# Altium footprint library FiltrosRF.PcbLib: 5 footprints
Each footprint in its own frame and in the unit in brackets; x right, y up, seen from the top. Pads: shape width x height; smd on the part's side, far side on the other; paste and mask are expansions set on the pad; w line width, h text height; cw(c..) or ccw(c..) is an arc to the next point about the centre after c.
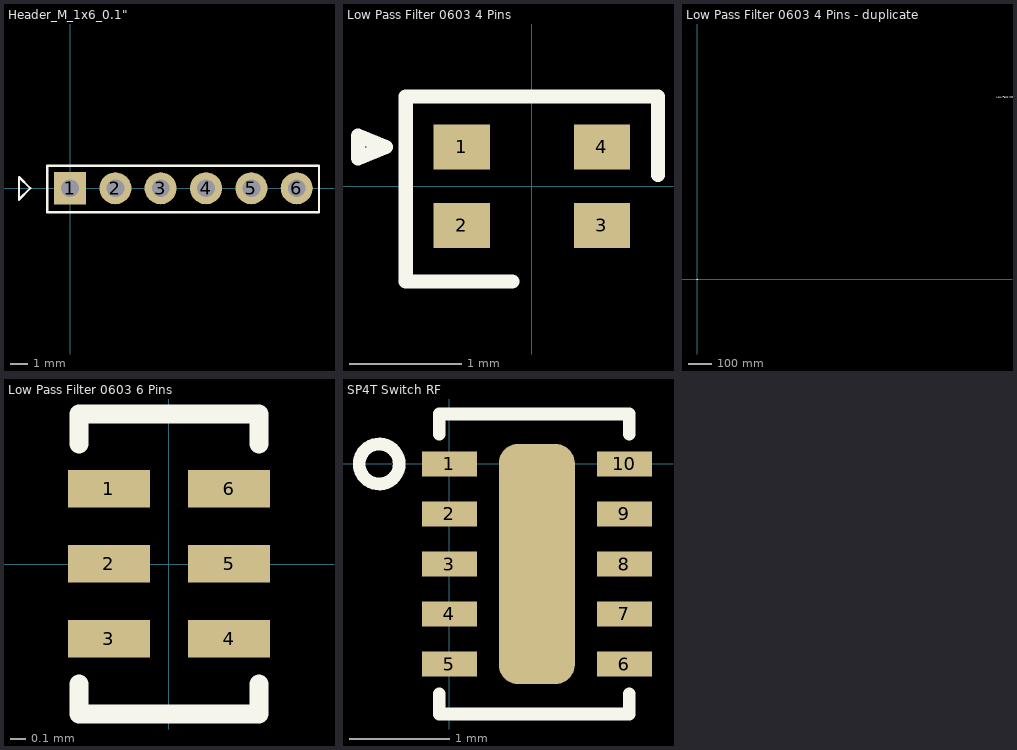
[diagram p0: the footprints below, top view; thin cyan lines are the x and y axes]

## Header_M_1x6_0.1" [mm] "Header Male 1 x 6 Vias Pitch 100mils"
pads (6):
  rect 1.8x1.8 hole 1: 1(0,0)
  round 1.8 hole 1: 2(2.54,0) 3(5.08,0) 4(7.62,0) 5(10.16,0) 6(12.7,0)
Top Overlay:
  lines w0.127: -2.857,-0.635 -2.857,0.635 -2.222,0 -2.857,-0.635 ; -1.27,-1.35 -1.27,1.27 13.95,1.27 13.95,-1.35 -1.27,-1.35
3D body "61300611121.step": height 8.47, standoff -3.07, extent -1.27,-1.3 13.97,1.24

## Low Pass Filter 0603 4 Pins [mm]
pads (4):
  rect 0.5x0.4 smd: 1(-0.625,0.35) 2(-0.625,-0.35) 3(0.625,-0.35) 4(0.625,0.35)
Top Overlay:
  lines w0.127: -0.175,-0.85 -1.125,-0.85 -1.125,0.8 1.125,0.8 1.125,0.1 ; -1.55,0.25 -1.55,0.45 ; -1.55,0.25 -1.55,0.45 ; -1.55,0.25 -1.3,0.35 -1.55,0.45

## Low Pass Filter 0603 4 Pins - duplicate [mm]
pads (4):
  rect 0.5x0.4 smd: 1(0,0) 2(0,-0.7) 3(1.25,-0.7) 4(1.25,0)
Top Overlay:
  lines w0.127: 1.7,-0.3 1.8,-0.3 1.8,0.4 -0.55,0.4 -0.55,-0.4 -0.55,-1.15 0.5,-1.15 ; 0.5,-1.15 0.5,-1 0.5,-1.15
  text "Low Pass Filter 0603 6 Pins" at 1269.975,766.455 h1.52

## Low Pass Filter 0603 6 Pins [mm]
pads (6):
  rect 0.55x0.25 smd mask+0.06: 1(-0.4,0.5) 2(-0.4,0) 3(-0.4,-0.5) 4(0.4,-0.5) 5(0.4,0) 6(0.4,0.5)
Top Overlay:
  lines w0.127: -0.6,-0.8 -0.6,-1 0.6,-1 0.6,-0.8 ; -0.6,0.8 -0.6,1 0.6,1 0.6,0.8
3D body "3550LP_JOT.step": height 0.71, standoff 0, extent -0.445,-0.851 0.445,0.851

## SP4T Switch RF [mm]
pads (11):
  rect 0.55x0.25 smd mask+0.05: 1(0,0) 2(0,-0.5) 3(0,-1) 4(0,-1.5) 5(0,-2) 6(1.75,-2) 7(1.75,-1.5) 8(1.75,-1) 9(1.75,-0.5) 10(1.75,0)
  rrect50% 0.76x2.4 smd mask+0.05: ""(0.875,-1)
Top Overlay:
  circle w0.127: c-0.7,0 r0.2
  lines w0.127: -0.1,-2.3 -0.1,-2.5 1.8,-2.5 1.8,-2.3 ; -0.1,0.3 -0.1,0.5 1.8,0.5 1.8,0.3